# Altium schematic symbol library 70246-1201.SchLib: 1 symbol
Pins are listed as number, name and electrical type; pins without a type are passive.

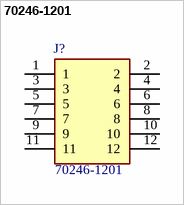
[diagram p0: symbol 70246-1201]

## 70246-1201
designator J?
MOLEX - 70246-1201 - Wire-To-Board Connector, 2.54 mm, 12 Contacts, Header, C-Grid 70246 Series, Through Hole, 2 Rows; Geometry.Height: 9.27mm; Manufacturer_Name: Molex; Manufacturer_Part_Number: 70246-1201; Mouser Part Number: 538-70246-1201; Mouser Price/Stock: https://www.mouser.co.uk/ProductDetail/Molex/70246-1201?qs=fJMuCzod2IK5EwAAa91t%252Bg%3D%3D; Arrow Part Number: *; Arrow Price/Stock: *; Datasheet Link: https://datasheet.datasheetarchive.com/originals/distributors/Datasheets-DGA22/2151895.pdf
footprint SHDR12W99P254_2X6_2286X889X927P
pins: 1, 2, 3, 4, 5, 6, 7, 8, 9, 10, 11, 12